# Altium footprint library MainCyclomotion.PcbLib: 28 footprints (part 1 of 2)
Each footprint in its own frame and in the unit in brackets; x right, y up, seen from the top. Pads: shape width x height; smd on the part's side, far side on the other; paste and mask are expansions set on the pad; w line width, h text height; cw(c..) or ccw(c..) is an arc to the next point about the centre after c.
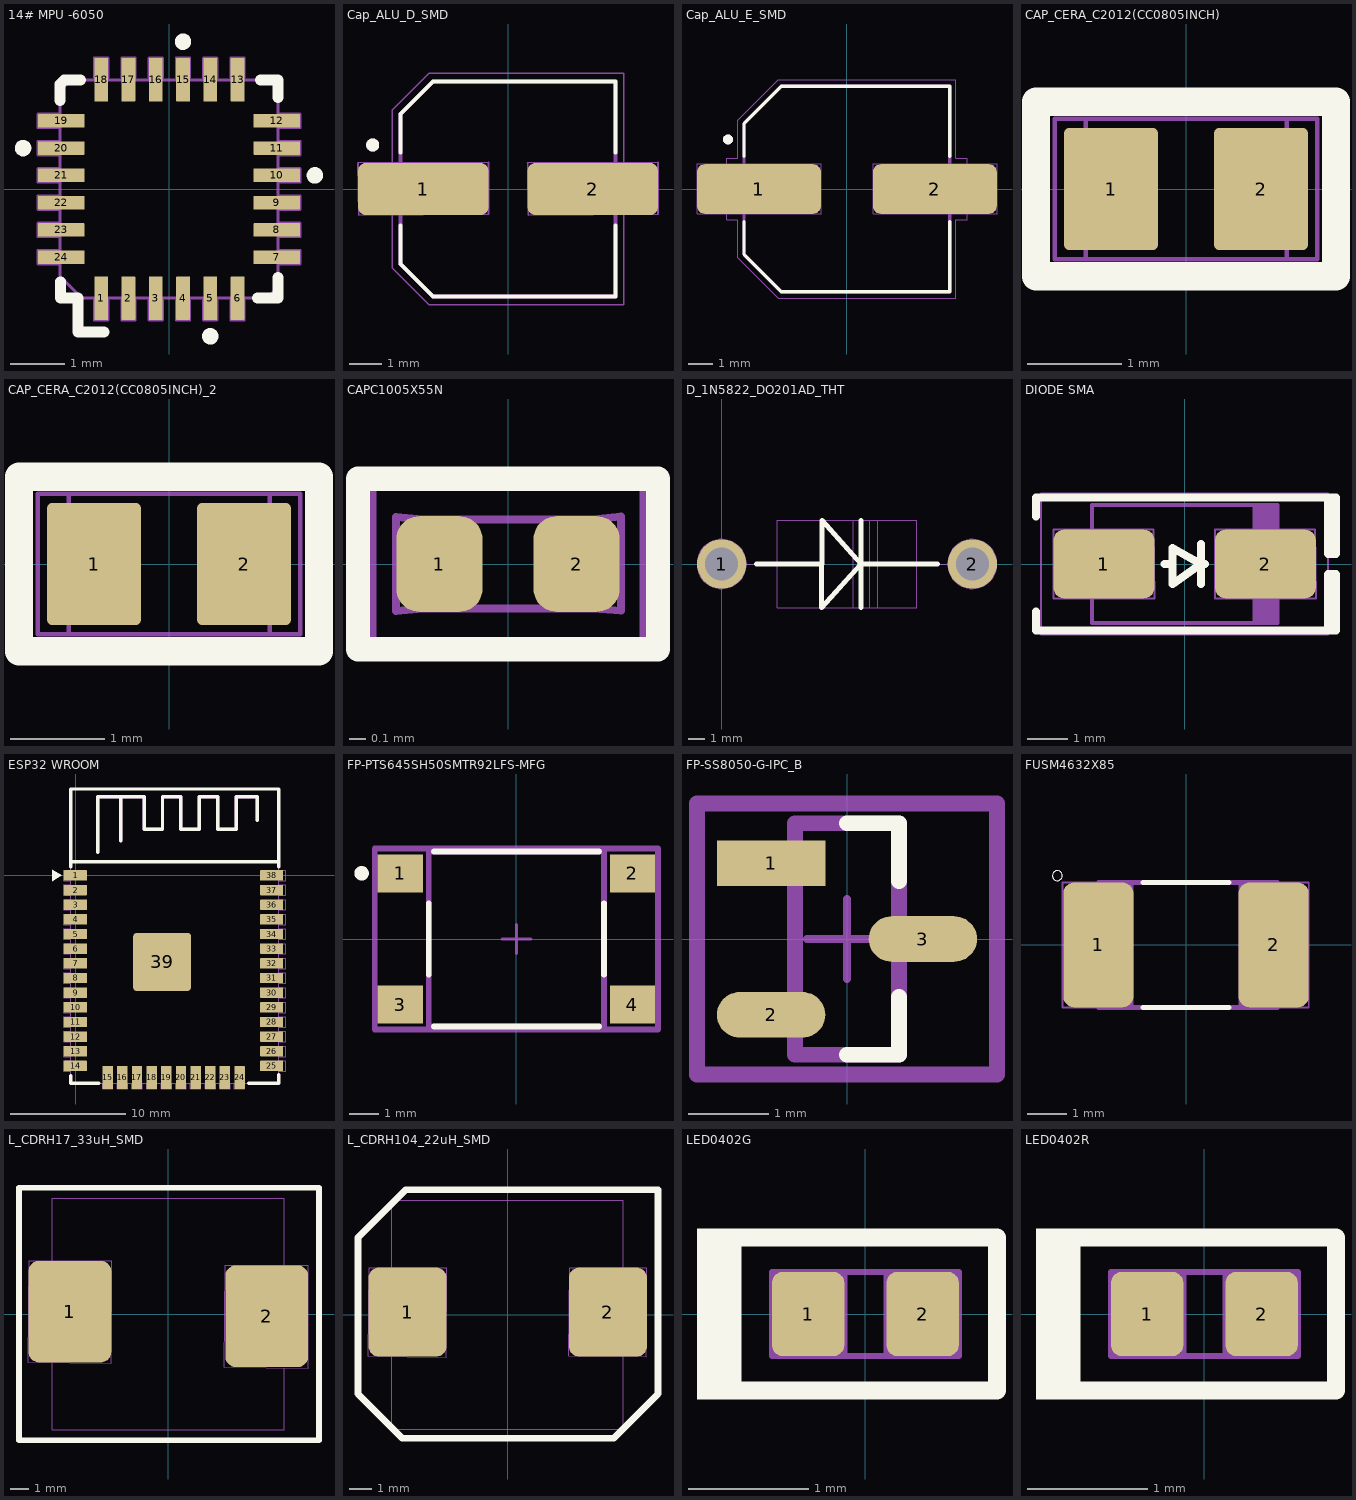
[diagram p0: the footprints below, top view; thin cyan lines are the x and y axes]

## 14# MPU -6050 [mm] "QFN"
height 0.95
pads (24):
  rrect10% 0.25x0.8 smd mask+0.05: 1(-1.243,-2) 2(-0.743,-2) 3(-0.243,-2) 4(0.257,-2) 5(0.757,-2) 6(1.257,-2) 13(1.257,2) 14(0.757,2) 15(0.257,2) 16(-0.243,2) 17(-0.743,2) 18(-1.243,2)
  rrect10% 0.85x0.25 smd mask+0.05: 7(1.975,-1.25) 8(1.975,-0.75) 9(1.975,-0.25) 10(1.975,0.25) 11(1.975,0.75) 12(1.975,1.25) 19(-1.975,1.25) 20(-1.975,0.75) 21(-1.975,0.25) 22(-1.975,-0.25) 23(-1.975,-0.75) 24(-1.975,-1.25)
Top Overlay:
  circle w0.2: c-2.675,0.75 r0.05
  circle w0.2: c0.257,2.7 r0.05
  circle w0.2: c2.675,0.25 r0.05
  circle w0.2: c0.757,-2.7 r0.05
  lines w0.2: -2,1.62 -2,1.92 -1.92,2 -1.62,2 ; -1.99,-1.7 -1.99,-2 -1.672,-2 -1.672,-2.62 -1.19,-2.62 ; 1.62,-2 2,-2 2,-1.62 ; 1.68,2 2,2 2,1.68
Mechanical 2:
  lines w0.05: -2,-0.875 -2.4,-0.875 -2.4,-0.625 -2,-0.625 ; -2,-0.375 -2.4,-0.375 -2.4,-0.125 -2,-0.125 ; -2,0.125 -2.4,0.125 -2.4,0.375 -2,0.375 ; -2,0.625 -2.4,0.625 -2.4,0.875 -2,0.875 ; -2,1.125 -2.4,1.125 -2.4,1.375 -2,1.375 ; -1.368,2.05 -1.368,2.4 -1.118,2.4 -1.118,2.05 ; -0.868,-2.05 -0.868,-2.4 -0.618,-2.4 -0.618,-2.05 ; -0.868,2.05 -0.868,2.4 -0.618,2.4 -0.618,2.05 ; -0.368,-2.05 -0.368,-2.4 -0.118,-2.4 -0.118,-2.05 ; -0.368,2.05 -0.368,2.4 -0.118,2.4 -0.118,2.05 ; 0.132,-2.05 0.132,-2.4 0.382,-2.4 0.382,-2.05 ; 0.132,2.05 0.132,2.4 0.382,2.4 0.382,2.05 ; 0.632,-2.05 0.632,-2.4 0.882,-2.4 0.882,-2.05 ; 0.632,2.05 0.632,2.4 0.882,2.4 0.882,2.05 ; 1.132,-2.05 1.132,-2.4 1.382,-2.4 1.382,-2.05 ; 2,-1.375 2.4,-1.375 2.4,-1.125 2,-1.125 ; 2,-0.875 2.4,-0.875 2.4,-0.625 2,-0.625 ; 2,-0.375 2.4,-0.375 2.4,-0.125 2,-0.125 ; 2,0.125 2.4,0.125 2.4,0.375 2,0.375 ; 2,0.625 2.4,0.625 2.4,0.875 2,0.875 ; -2.4,-1.375 -2.4,-1.125 ; -2.4,-1.375 -2,-1.375 -2.4,-1.375 ; -2.4,-1.375 -2.4,-1.125 ; -2.4,-1.125 -2,-1.125 -2.4,-1.125 ; -1.368,-2.4 -1.368,-2.05 -1.368,-2.4 ; -1.368,-2.4 -1.118,-2.4 ; -1.368,-2.4 -1.118,-2.4 ; -1.118,-2.4 -1.118,-2.05 -1.118,-2.4 ; 1.132,2.4 1.382,2.4 ; 1.132,2.4 1.132,2.05 1.132,2.4 ; 1.132,2.4 1.382,2.4 ; 1.382,2.4 1.382,2.05 1.382,2.4 ; 2.4,1.125 2.4,1.375 ; 2.4,1.125 2,1.125 2.4,1.125 ; 2.4,1.125 2.4,1.375 ; 2.4,1.375 2,1.375 2.4,1.375 ; -2,-1.6 -1.6,-2 1.8,-2 2,-1.8 2,1.84 1.84,2 -1.8,2 -2,1.8 -2,-1.6
  text "24" at -1.4,-1.4 h0.4
  text "19" at -1.5,0.8 h0.4
  text "18" at -1.3,1.5 h0.4
  text "13" at 0.8,1.5 h0.4
  text "12" at 1.8,0.8 h0.4
  text "7" at 1.8,-1.2 h0.4
  text "6" at 1.15,-1.79 h0.4
  text "1" at -1.31,-1.79 h0.4
  text ".Designator" at 0.1,0.433 h1
3D body "User Library-mpu-6050_qfn-24.step": height 0.85, standoff -0.05, extent -2.03,-2.02 2.01,2.02

## Cap_ALU_D_SMD [mm]
pads (2):
  rrect30% 4x1.6 smd: 1(-2.6,0) 2(2.6,0)
Top Overlay:
  circle w0.2: c-4.15,1.35 r0.1
  lines w0.127: -3.3,-1.12 -3.3,-2.3 -2.3,-3.3 3.3,-3.3 3.3,-1.12 ; -3.3,1.12 -3.3,2.3 -2.3,3.3 3.3,3.3 3.3,1.12
Mechanical 2:
  lines w0.05: -4.6,0.8 -4.575,-0.8 -0.6,-0.775 -0.6,0.825 -4.6,0.8 ; -3.55,-2.425 -2.425,-3.55 3.55,-3.55 3.55,-1.05 3.55,1.05 3.55,3.55 -2.425,3.55 -3.55,2.425 -3.55,1.05 -3.55,-1.05 -3.55,-2.425 ; 0.6,0.8 0.625,-0.8 4.6,-0.775 4.6,0.825 0.6,0.8
  text ".Designator" at 0.075,0.433 h1
Mechanical 13:
  circle w0.2: c-4.15,1.35 r0.1
  lines w0.127: -3.3,-2.3 -2.3,-3.3 3.3,-3.3 3.3,3.3 -2.3,3.3 -3.3,2.3 -3.3,-2.3
3D body "step_temp.STEP": height 5.8, standoff 0, extent -3.65,-3.3 3.65,3.3

## Cap_ALU_E_SMD [mm]
pads (2):
  rrect30% 5x2 smd: 1(-3.55,0) 2(3.55,0)
Top Overlay:
  circle w0.2: c-4.8,2 r0.1
  lines w0.127: -4.15,-1.32 -4.15,-2.65 -2.65,-4.15 4.15,-4.15 4.15,-1.32 ; -4.15,1.32 -4.15,2.65 -2.65,4.15 4.15,4.15 4.15,1.32
Mechanical 2:
  lines w0.05: -6.045,-0.991 -1.041,-0.991 -1.041,1.016 -6.045,1.016 -6.045,-0.991 ; -4.851,-1.25 -4.851,1.25 -4.4,1.25 -4.4,2.775 -2.775,4.4 4.4,4.4 4.4,1.25 4.851,1.25 4.851,-1.25 4.4,-1.25 4.4,-4.4 -2.775,-4.4 -4.4,-2.775 -4.4,-1.25 -4.851,-1.25 ; 1.055,-0.991 6.059,-0.991 6.059,1.016 1.055,1.016 1.055,-0.991
  text ".Designator" at 0.1,0.433 h1
Mechanical 13:
  circle w0.2: c-4.8,2 r0.1
  lines w0.127: -4.15,-2.65 -2.65,-4.15 4.15,-4.15 4.15,4.15 -2.65,4.15 -4.15,2.65 -4.15,-2.65
3D body "step_temp.STEP": height 10.2, standoff 0, extent -4.85,-4.15 4.85,4.15

## CAP_CERA_C2012(CC0805INCH) [mm] "Chip Capacitor, 2-Leads, Body 2.0x1.3mm, IPC Medium Density"
height 1.45
pads (2):
  rrect10% 1x1.3 smd: 1(-0.8,0) 2(0.8,0)
Top Overlay:
  lines w0.3: -1.6,-0.93 1.6,-0.93 1.6,0.93 -1.6,0.93 -1.6,-0.93
Mechanical 2:
  lines w0.05: -1.07,-0.74 -1.07,0.75 ; 1.075,-0.74 1.075,0.75 ; -1.4,-0.75 1.4,-0.75 1.4,0.75 -1.4,0.75 -1.4,-0.75
  text ".Designator" at 0.1,0.433 h1
3D body "User Library-cap_0805_lowprofile.step": height 0.95, standoff 0, extent -1,-0.6 1,0.6

## CAP_CERA_C2012(CC0805INCH)_2 [mm]
pads (2):
  rrect10% 1x1.3 smd: 1(-0.8,0) 2(0.8,0)
Top Overlay:
  lines w0.3: -1.6,-0.93 -1.6,0.93 1.6,0.93 1.6,-0.93 -1.6,-0.93
Mechanical 2:
  lines w0.05: -1.07,-0.74 -1.07,0.75 ; 1.075,-0.74 1.075,0.75 ; -1.4,-0.75 -1.4,0.75 1.4,0.75 1.4,-0.75 -1.4,-0.75
  text ".Designator" at 0.1,0.306 h1
3D body "User Library-cap_0805_lowprofile.step": height 0.95, standoff 0, extent -1,-0.6 1,0.6

## CAPC1005X55N [mm]
pads (2):
  rrect53% 0.54x0.6 smd: 1(-0.43,0) 2(0.43,0)
Top Overlay:
  lines w0.152: -0.94,-0.533 0.94,-0.533 0.94,0.533 -0.94,0.533 -0.94,-0.533
Mechanical 2:
  lines w0.05: -0.53,-0.28 0.53,-0.28 ; -0.53,-0.28 -0.53,0.28 ; -0.53,-0.28 -0.701,-0.295 -0.701,0.294 -0.53,0.28 ; -0.53,0.28 0.53,0.28 ; 0.53,-0.28 0.53,0.28 ; 0.53,-0.28 0.709,-0.293 0.709,0.297 0.53,0.28
  text ".Designator" at 0.1,0.433 h1
Top Courtyard:
  lines w0.05: -0.85,-0.54 0.85,-0.54 0.85,0.54 -0.85,0.54 -0.85,-0.54
3D body "CL05A105KL5NRNC.STEP": height 0.55, standoff 0, extent -0.5,-0.25 0.5,0.25

## D_1N5822_DO201AD_THT [mm] "Schottky Diode 1N5822, 3A 40V, DO-201AD package"
pads (2):
  round 3 hole 2 mask+0.1: 1(0,0) 2(15.24,0)
Top Overlay:
  lines w0.3: 2.12,0 6.088,0 ; 8.47,-2.65 8.47,2.65 ; 13.12,0 8.47,0 ; 8.47,0 6.1,2.65 6.075,-2.65 8.47,0
Mechanical 2:
  circle w0.05: c0,0 r1.5
  circle w0.05: c15.24,0 r1.5
  lines w0.05: 1.5,0 3.37,0 ; 8,-2.65 8,2.65 ; 8.5,-2.65 8.5,2.65 ; 9,-2.65 9,2.65 ; 11.87,0 13.74,0 ; 3.37,-2.65 3.37,2.65 11.87,2.65 11.87,-2.65 3.37,-2.65 ; 9.5,-2.65 9.5,2.65 9.5,-2.65
  text ".Designator" at 0.1,0.433 h1
  text "A" at -0.28,-0.2 h0.75
  text "K" at 15.02,-0.2 h0.75
3D body "Diodo 1N5822.STEP": height 5.36, standoff -3.3, extent -0.67,-2.66 15.87,2.66

## DIODE SMA [mm] "SMA"
height 2.4
pads (2):
  rrect30% 2.5x1.7 smd: 1(-2,0) 2(2,0)
Top Overlay:
  lines w0.2: -3.683,-1.175 -3.683,-1.651 3.75,-1.651 3.75,-0.254 3.556,-0.254 3.556,-1.651 ; -3.683,1.175 -3.683,1.651 3.75,1.651 3.75,0.254 3.556,0.254 3.556,1.651 ; -0.5,0 -0.3,0 ; 0.4,-0.5 0.4,0.5 ; 0.5,0 0.4,0 ; 0.4,0 -0.3,0.4 -0.3,-0.5 0.4,0
Mechanical 2:
  lines w0.05: -0.5,0 -0.3,0 ; 0.4,-0.5 0.4,0.5 ; 0.5,0 0.4,0 ; 0.4,0 -0.3,0.4 -0.3,-0.5 0.4,0 ; -3.556,-1.75 -3.556,1.75 3.556,1.75 3.556,-1.75 -3.556,-1.75 ; -3.25,-0.85 -3.25,0.85 -0.775,0.85 -0.75,-0.85 -3.25,-0.85 ; 0.75,-0.85 0.75,0.85 3.225,0.85 3.25,-0.85 0.75,-0.85
  text ".Designator" at 0.15,0.633 h1
Mechanical 13:
  rectangle: 1.681,-1.46 2.3,1.46
  lines w0.1: -2.3,-1.46 -2.3,1.46 2.3,1.46 2.3,-1.46 -2.3,-1.46
3D body "SMA.STEP": height 2.4, standoff 0, extent -2.6,-1.375 2.6,1.375

## ESP32 WROOM [mm] "ESP32 WROOM"
pads (39):
  rrect10% 2x0.9 smd: 1(0,0) 2(0,-1.27) 3(0,-2.54) 4(0,-3.81) 5(0,-5.08) 6(0,-6.35) 7(0,-7.62) 8(0,-8.89) 9(0,-10.16) 10(0,-11.43) 11(0,-12.7) 12(0,-13.97) 13(0,-15.24) 14(0,-16.51) 25(17,-16.51) 26(17,-15.24) 27(17,-13.97) 28(17,-12.7) 29(17,-11.43) 30(17,-10.16) 31(17,-8.89) 32(17,-7.62) 33(17,-6.35) 34(17,-5.08) 35(17,-3.81) 36(17,-2.54) 37(17,-1.27) 38(17,0)
  rrect10% 0.9x2 smd: 15(2.785,-17.51) 16(4.055,-17.51) 17(5.325,-17.51) 18(6.595,-17.51) 19(7.865,-17.51) 20(9.135,-17.51) 21(10.405,-17.51) 22(11.675,-17.51) 23(12.945,-17.51) 24(14.215,-17.51)
  rrect10% 5x5 smd: 39(7.5,-7.5)
Top Overlay:
  region: -1.2,0 -2,0.5 -2,-0.5
  lines w0.3: -0.4,-17.355 -0.4,-18.015 2,-18.015 ; -0.4,0.745 -0.4,7.49 17.6,7.49 17.6,0.745 ; -0.4,1.19 17.6,1.19 ; 1.935,2 1.935,6.8 5.935,6.8 5.935,4 7.535,4 7.535,6.8 9.135,6.8 9.135,6.4 9.135,4 10.735,4 10.735,6.8 12.335,6.8 12.335,4 13.935,4 13.935,6.8 15.735,6.8 15.735,4.8 ; 3.935,3 3.935,6.8 ; 15,-18.015 17.6,-18.015 17.6,-17.255
Mechanical 2:
  drawing of 167 lines, arcs and shapes, not listed
  text "38" at 17.3,-0.555 h0.8
  text "25" at 17.3,-17.155 h0.8
  text "24" at 13.6,-17.555 h0.8
  text "15" at 2.2,-17.555 h0.8
  text "14" at 0.6,-16.955 h0.8
  text "1" at 0.6,-0.055 h0.8
3D body "esp-wroom-32.stp": height 3, standoff -0.04, extent -0.535,-18.015 17.535,7.525

## FP-PTS645SH50SMTR92LFS-MFG [mm]
pads (4):
  rect 1.55x1.3 smd paste+0 mask+0: 1(-3.975,2.25) 2(3.975,2.25) 3(-3.975,-2.25) 4(3.975,-2.25)
Top Overlay:
  circle w0.25: c-5.3,2.25 r0.125
  lines w0.2: -3,-1.225 -3,1.225 ; -2.825,-3 2.825,-3 ; -2.825,3 2.825,3 ; 3,-1.225 3,1.225
Top 3D Body:
  lines w0.2: -3,-3 -3,3 3,3 3,-3 -3,-3
Top Courtyard:
  lines w0.2: -4.85,-3.1 -4.85,3.1 4.85,3.1 4.85,-3.1 -4.85,-3.1
Top Assembly:
  lines w0.2: -4.85,-3.1 -4.85,3.1 4.85,3.1 4.85,-3.1 -4.85,-3.1
  text ".Designator" at 0,0.187 h1
Top Component Center:
  lines w0.1: -0.5,0 0.5,0 ; 0,-0.5 0,0.5
3D body "User Library-PTS645SL43SMTR92-LFS.STEP": height 4.3, standoff 0, extent -4.5,-3 4.5,3

## FP-SS8050-G-IPC_B [mm]
pads (3):
  rect 1.357x0.572 smd paste+0 mask+0: 1(-0.951,0.95)
  rrect100% 1.357x0.572 smd paste+0 mask+0: 2(-0.951,-0.95) 3(0.951,0)
Top Overlay:
  lines w0.2: 0,-1.45 0.65,-1.45 0.65,-0.725 ; 0,1.45 0.65,1.45 0.65,0.725
Top 3D Body:
  lines w0.2: -0.65,-1.45 -0.65,1.45 0.65,1.45 0.65,-1.45 -0.65,-1.45
Top Courtyard:
  lines w0.2: -1.879,-1.7 -1.879,1.7 1.879,1.7 1.879,-1.7 -1.879,-1.7
Top Assembly:
  lines w0.2: -1.879,-1.7 -1.879,1.7 1.879,1.7 1.879,-1.7 -1.879,-1.7
  text ".Designator" at 0,-0.001 h1
Top Component Center:
  lines w0.1: -0.5,0 0.5,0 ; 0,-0.5 0,0.5
3D body "Trans_Comchip_SS8050-G_eec.STEP": height 0.25, standoff 0, extent -1.879,-1.7 1.879,1.7

## FUSM4632X85 [mm]
pads (2):
  rrect30% 1.8x3.2 smd: 1(-2.25,0) 2(2.25,0)
Top Overlay:
  circle w0: c-3.302,1.778 r0.127
  lines w0.127: -1.1,-1.6 1.1,-1.6 ; -1.1,1.6 1.1,1.6
Mechanical 2:
  circle w0: c-3.302,1.778 r0.127
  lines w0.05: -2.25,-1.6 -3.175,-1.6 -3.175,1.6 -2.25,1.6 ; -2.25,-1.6 2.35,-1.6 ; -2.25,-1.6 -2.25,1.6 ; -2.25,1.6 2.35,1.6 ; 2.35,-1.6 3.15,-1.6 3.15,1.6 2.35,1.6 ; 2.35,-1.6 2.35,1.6
  text ".Designator" at 0.1,0.42 h1
Mechanical 13:
  region: 2.35,0.5 2.324,0.499 2.298,0.497 2.272,0.494 2.246,0.489 2.221,0.483 2.195,0.476 2.171,0.467 2.147,0.457 2.123,0.446 2.1,0.433 2.078,0.419 2.056,0.405 2.035,0.389 2.015,0.372 1.996,0.354 1.978,0.335 1.961,0.315 1.945,0.294 1.931,0.272 1.917,0.25 1.904,0.227 1.893,0.203 1.883,0.179 1.874,0.155 1.867,0.129 1.861,0.104 1.856,0.078 1.853,0.052 1.851,0.026 1.85,0 1.851,-0.026 1.853,-0.052 1.856,-0.078 1.861,-0.104 1.867,-0.129 1.874,-0.155 1.883,-0.179 1.893,-0.203 1.904,-0.227 1.917,-0.25 1.931,-0.272 1.945,-0.294 1.961,-0.315 1.978,-0.335 1.996,-0.354 2.015,-0.372 2.035,-0.389 2.056,-0.405 2.078,-0.419 2.1,-0.433 2.123,-0.446 2.147,-0.457 2.171,-0.467 2.195,-0.476 2.221,-0.483 2.246,-0.489 2.272,-0.494 2.298,-0.497 2.324,-0.499 2.35,-0.5 2.35,-1.6 1.35,-1.6 1.35,1.6 2.35,1.6
  region: -1.35,-1.6 -2.25,-1.6 -2.25,-0.5 -2.224,-0.499 -2.198,-0.497 -2.172,-0.494 -2.146,-0.489 -2.121,-0.483 -2.095,-0.476 -2.071,-0.467 -2.047,-0.457 -2.023,-0.446 -2,-0.433 -1.978,-0.419 -1.956,-0.405 -1.935,-0.389 -1.915,-0.372 -1.896,-0.354 -1.878,-0.335 -1.861,-0.315 -1.845,-0.294 -1.831,-0.272 -1.817,-0.25 -1.804,-0.227 -1.793,-0.203 -1.783,-0.179 -1.774,-0.155 -1.767,-0.129 -1.761,-0.104 -1.756,-0.078 -1.753,-0.052 -1.751,-0.026 -1.75,0 -1.751,0.026 -1.753,0.052 -1.756,0.078 -1.761,0.104 -1.767,0.129 -1.774,0.155 -1.783,0.179 -1.793,0.203 -1.804,0.227 -1.817,0.25 -1.831,0.272 -1.845,0.294 -1.861,0.315 -1.878,0.335 -1.896,0.354 -1.915,0.372 -1.935,0.389 -1.956,0.405 -1.978,0.419 -2,0.433 -2.023,0.446 -2.047,0.457 -2.071,0.467 -2.095,0.476 -2.121,0.483 -2.146,0.489 -2.172,0.494 -2.198,0.497 -2.224,0.499 -2.25,0.5 -2.25,1.6 -1.35,1.6
  lines w0.127: -1.1,-1.6 -2.25,-1.6 -2.25,-0.5 ccw(c-2.25,0) -2.25,0.5 -2.25,1.6 -1.1,1.6 ; 1.1,-1.6 2.35,-1.6 2.35,-0.5 cw(c2.35,0) 2.35,0.5 2.35,1.6 1.1,1.6
3D body "step_temp.STEP": height 1.1, standoff 0, extent -2.275,-1.62 2.275,1.62

## L_CDRH17_33uH_SMD [mm] "Shielded Power Inductor CDRH17, 33µH ±20%, 1.2A, 120mΩ DCR, SMD, 12x12x5mm"
pads (2):
  rrect25% 4.4x5.4 smd mask+0.1: 1(-5.225,0.125) 2(5.225,-0.119)
Top Overlay:
  lines w0.3: -7.925,-6.7 8,-6.7 8,6.7 -7.925,6.7 -7.925,-6.7
Mechanical 2:
  lines w0.05: -6.15,-2.6 -6.15,-6.15 6.15,-6.15 6.15,-2.875 ; -6.15,2.825 -6.15,6.15 6.15,6.15 6.15,2.6 ; -7.428,-2.564 -7.378,2.825 -3,2.825 -3.025,-2.625 -7.428,-2.564 ; 2.974,-2.813 3.024,2.587 7.442,2.587 7.417,-2.875 2.974,-2.813
  text ".Designator" at 0.125,0.433 h1
3D body "CDRH127_LDNP-470MC.STEP": height 8, standoff 0, extent -6,-6 6,6

## L_CDRH104_22uH_SMD [mm] "Shielded Power Inductor CDRH104, 22µH ±20%, 3.6A, SMD, 10X10mm"
pads (2):
  rrect25% 3.5x4 smd mask+0.1: 1(-4.5,0.125) 2(4.5,0.125)
Top Overlay:
  lines w0.3: -6.725,-3.55 -6.725,3.475 -4.575,5.625 6.75,5.625 6.75,-3.55 4.75,-5.55 -4.725,-5.55 -6.725,-3.55
Mechanical 2:
  lines w0.05: -5.2,-1.867 -5.2,-5.15 5.2,-5.15 5.2,-1.868 ; -5.2,2.125 -5.2,5.15 5.2,5.15 5.2,2.125 ; -6.265,-1.852 -2.767,-1.901 -2.748,2.125 -6.228,2.125 -6.265,-1.852 ; 2.743,-1.834 6.221,-1.882 6.24,2.125 2.78,2.125 2.743,-1.834
  text ".Designator" at 0.125,0.433 h1
3D body "CDRH104RNP220NC--3DModel-STEP-56544.STEP": height 4, standoff 0, extent -5.1,-5 5.1,5

## LED0402G [mm]
pads (2):
  rrect30% 0.6x0.7 smd: 1(-0.475,0) 2(0.475,0)
Top Overlay:
  rectangle: -1.397,-0.711 -1.027,0.711
  lines w0.152: -1.295,-0.635 1.092,-0.635 1.092,0.635 -1.295,0.635 -1.295,-0.635
Mechanical 2:
  lines w0.05: -0.175,-0.35 0.175,-0.35 ; -0.175,-0.35 -0.175,0.35 ; -0.175,-0.35 -0.775,-0.35 -0.775,0.35 -0.175,0.35 ; -0.175,0.35 0.175,0.35 ; 0.175,-0.35 0.775,-0.35 0.775,0.35 0.175,0.35 ; 0.175,-0.35 0.175,0.35
3D body "User Library-LED_1006_G.STEP": height 0.21, standoff 0.01, extent -0.5,-0.3 0.5,0.3

## LED0402R [mm]
pads (2):
  rrect30% 0.6x0.7 smd: 1(-0.475,0) 2(0.475,0)
Top Overlay:
  rectangle: -1.397,-0.711 -1.027,0.711
  lines w0.152: -1.295,-0.635 1.092,-0.635 1.092,0.635 -1.295,0.635 -1.295,-0.635
Mechanical 2:
  lines w0.05: -0.475,0.35 0.475,0.35 ; -0.175,-0.35 0.175,-0.35 ; -0.175,-0.35 -0.175,0.35 -0.775,0.35 -0.775,-0.35 -0.175,-0.35 ; 0.175,-0.35 0.775,-0.35 0.775,0.35 0.175,0.35 0.175,-0.35
3D body "User Library-LED_1006_R.STEP": height 0.21, standoff 0.01, extent -0.5,-0.3 0.5,0.3